# Altium schematic symbol library ANT3216LL00R2400A.SchLib: 1 symbol
Pins are listed as number, name and electrical type; pins without a type are passive.

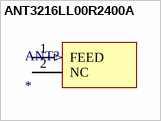
[diagram p0: symbol ANT3216LL00R2400A]

## ANT3216LL00R2400A
designator ANT?
2.45GHz Bluetooth, ISM, Wi-Fi, ZigbeeChip RF Antenna 2.4GHz ~ 2.5GHz 5.05dBi Solder Surface Mount; MP: ANT3216LL00R2400A; MF: PulseLarsen Antennas; Value: *; Package: None; Availability: In Stock; SnapEDA_Link: https://www.snapeda.com/parts/ANT3216LL00R2400A/PulseLarsen%20Antennas/view-part/5855679/?ref=snap; Price: None; Purchase-URL: https://pricing.snapeda.com/search/part/ANT3216LL00R2400A/?ref=eda; Check_prices: https://www.snapeda.com/parts/ANT3216LL00R2400A/PulseLarsen%20Antennas/view-part/5855679/?ref=eda
footprint ANTC3216X135N
pins: 1 FEED (in), 2 NC